# Altium schematic symbol library Comm.SchLib: 3 symbols
Pins are listed as number, name and electrical type; pins without a type are passive.

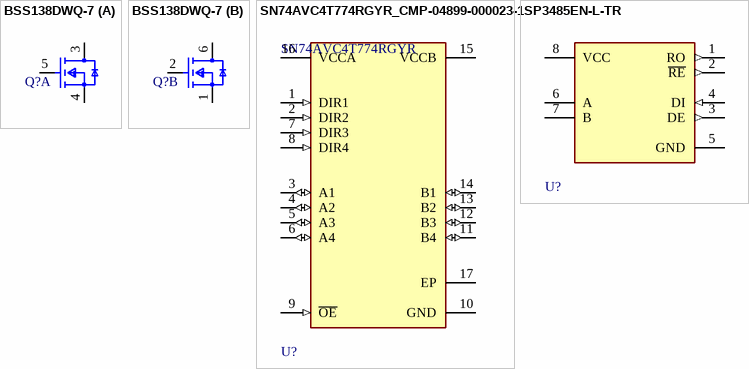
[diagram p0: symbols BSS138DWQ-7 to SP3485EN-L-TR]

## BSS138DWQ-7
designator Q?  (value not drawn)
footprint SOT363_IPC_A (Diodes_Inc)
footprint SOT363_IPC_B (Diodes_Inc)
footprint SOT363_IPC_C (Diodes_Inc)
footprint SOT363_MFG (Diodes_Inc)
part A pins: 3 D1, 4 S1, 5 G1
part B pins: 1 S2, 2 G2, 6 D2

## SN74AVC4T774RGYR_CMP-04899-000023-1
designator U?, comment SN74AVC4T774RGYR
IC TRNSLTR BIDIRECTIONAL 16VQFN; Manufacturer: Texas Instruments; V A Max: 3.6V; Number Of Inputs: 4; Min Supply Voltage: 1.2V; Nominal Supply Current: 16uA; Data Rate: 380Mbits/s; Propagation Delay: 2.6ns; Number Of Circuits: 1; Standoff Height: 0mm; Logic Function Desc: Non-Inverting; Temperature: -40°C to +85°C; Max Supply Voltage: 3.6V; Temperature Range High: +85°C; Octopart: https://octopart.com/sn74avc4t774rgyr-texas+instruments-12195083; Device Class L1: Integrated Circuits (ICs); Ambient Temperature Range Low: -40°C; ComponentLink2Description: Datasheet; Ambient Temperature Range High: +85°C; V A Min: 1.2V; Number Of Outputs: 4; Manufacturer Part Number: SN74AVC4T774RGYR; Ipc Land Pattern Name: QFN50P350X400X90-16; Digikey Description: IC TRNSLTR BIDIRECTIONAL 16VQFN; Device Class L3: Voltage Level Shifters; Device Class L2: Logic ICs; Lead Free: Yes; Package: RGY0016A; ComponentLink2URL: http://www.ti.com/lit/ds/symlink/sn74avc4t774.pdf; Height: 1mm; V B Min: 1.2V; RoHS: TRUE; V B Max: 3.6V; Temperature Range Low: -40°C; Mouser Description: Translation - Voltage Levels 4B Dual-Supply Bus Xcvr; Category: IC; Automotive: No
footprint FP-RGY0016A-IPC_B
footprint FP-RGY0016A-IPC_C
footprint FP-RGY0016A-MFG
footprint FP-RGY0016A-IPC_A
pins: 1 DIR1 (in), 2 DIR2 (in), 3 A1 (io), 4 A2 (io), 5 A3 (io), 6 A4 (io), 7 DIR3 (in), 8 DIR4 (in), 9 ~{OE} (in), 10 GND (power), 11 B4 (io), 12 B3 (io), 13 B2 (io), 14 B1 (io), 15 VCCB (power), 16 VCCA (power), 17 EP

## SP3485EN-L-TR
designator U?  (value not drawn)
footprint MaxLinear_NSOIC8_IPC_C
pins: 1 RO (out), 2 ~{RE} (out), 3 DE (out), 4 DI (in), 5 GND (power), 6 A (hiz), 7 B (hiz), 8 VCC (power)